# EAGLE library part ISP (library SamacSys_Parts)
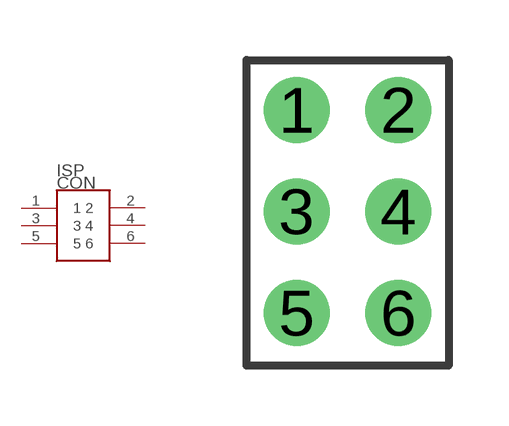
[diagram p14: symbol with the pads of ISP; footprint ISP]

Designator prefix CON

## ISP  [ISP]
1  1
2  2  pwr
3  3
4  4
5  5
6  6  pwr

## Footprint ISP (pad centres in mm)
825433-5
drill 1.1 pad 1.65: 1 0,0; 2 2.54,0; 3 0,-2.54; 4 2.54,-2.54; 5 0,-5.08; 6 2.54,-5.08